# EAGLE library part ICL7667CPAZ (library ICL7667CPAZ)
Dual Power MOSFET Driver Check prices <https://pricing.snapeda.com/parts/ICL7667CPAZ/Renesas%20Electronics%20America%20Inc/view-part?ref=eda>
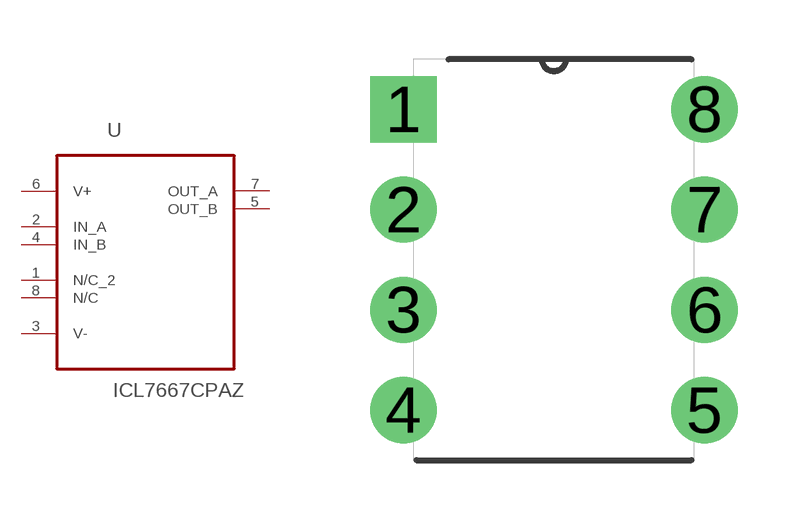
[diagram p0: symbol with the pads of DIP254P762X533-8; footprint DIP254P762X533-8]

Designator prefix U

## ICL7667CPAZ (Availability: In Stock; Description: High-Side or Low-Side Gate Driver IC Inverting 8-PDIP; MF: Renesas Electronics America Inc; MP: ICL7667CPAZ; Package: DIP-8 Renesas / Intersil; Price: None; Purchase-URL: https://pricing.snapeda.com/search/part/ICL7667CPAZ/?ref=eda)  [DIP254P762X533-8]
1  N/C_2  nc
2  IN_A  in
3  V-  pwr
4  IN_B  in
5  OUT_B  out
6  V+  pwr
7  OUT_A  out
8  N/C  nc

## Footprint DIP254P762X533-8 (pad centres in mm)
drill 1.118 square: 1 -7.62,7.62
drill 1.118: 2 -7.62,5.08; 3 -7.62,2.54; 4 -7.62,0; 5 0,0; 6 0,2.54; 7 0,5.08; 8 0,7.62